# EAGLE library part 505575-08 (library MOLEX)
Molex 505575-08 8 Position 2.00mm pitch connector wire to board connector Datasheet <https://www.molex.com/pdm_docs/sd/5055750271_sd.pdf>
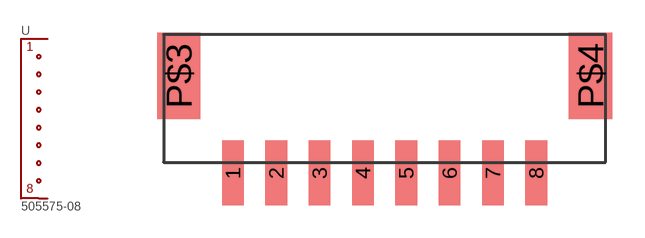
[diagram p2: symbol with the pads of 505575-08; footprint 505575-08]

Designator prefix -

## 505575-08  [505575-08]
1  1
2  2
3  3
4  4
5  5
6  6
7  7
8  8

## Footprint 505575-08 (pad centres in mm)
Molex 505575-08
smd 1 x 3: 1 -7,-0.5; 2 -5,-0.5; 3 -3,-0.5; 4 -1,-0.5; 5 1,-0.5; 6 3,-0.5; 7 5,-0.5; 8 7,-0.5
smd 2 x 4: P$3 -9.5,4; P$4 9.5,4